# Altium footprint library MLACHE_J.PCBLIB: 73 footprints (part 3 of 5)
Each footprint in its own frame and in the unit in brackets; x right, y up, seen from the top. Pads: shape width x height; smd on the part's side, far side on the other; paste and mask are expansions set on the pad; w line width, h text height; cw(c..) or ccw(c..) is an arc to the next point about the centre after c.
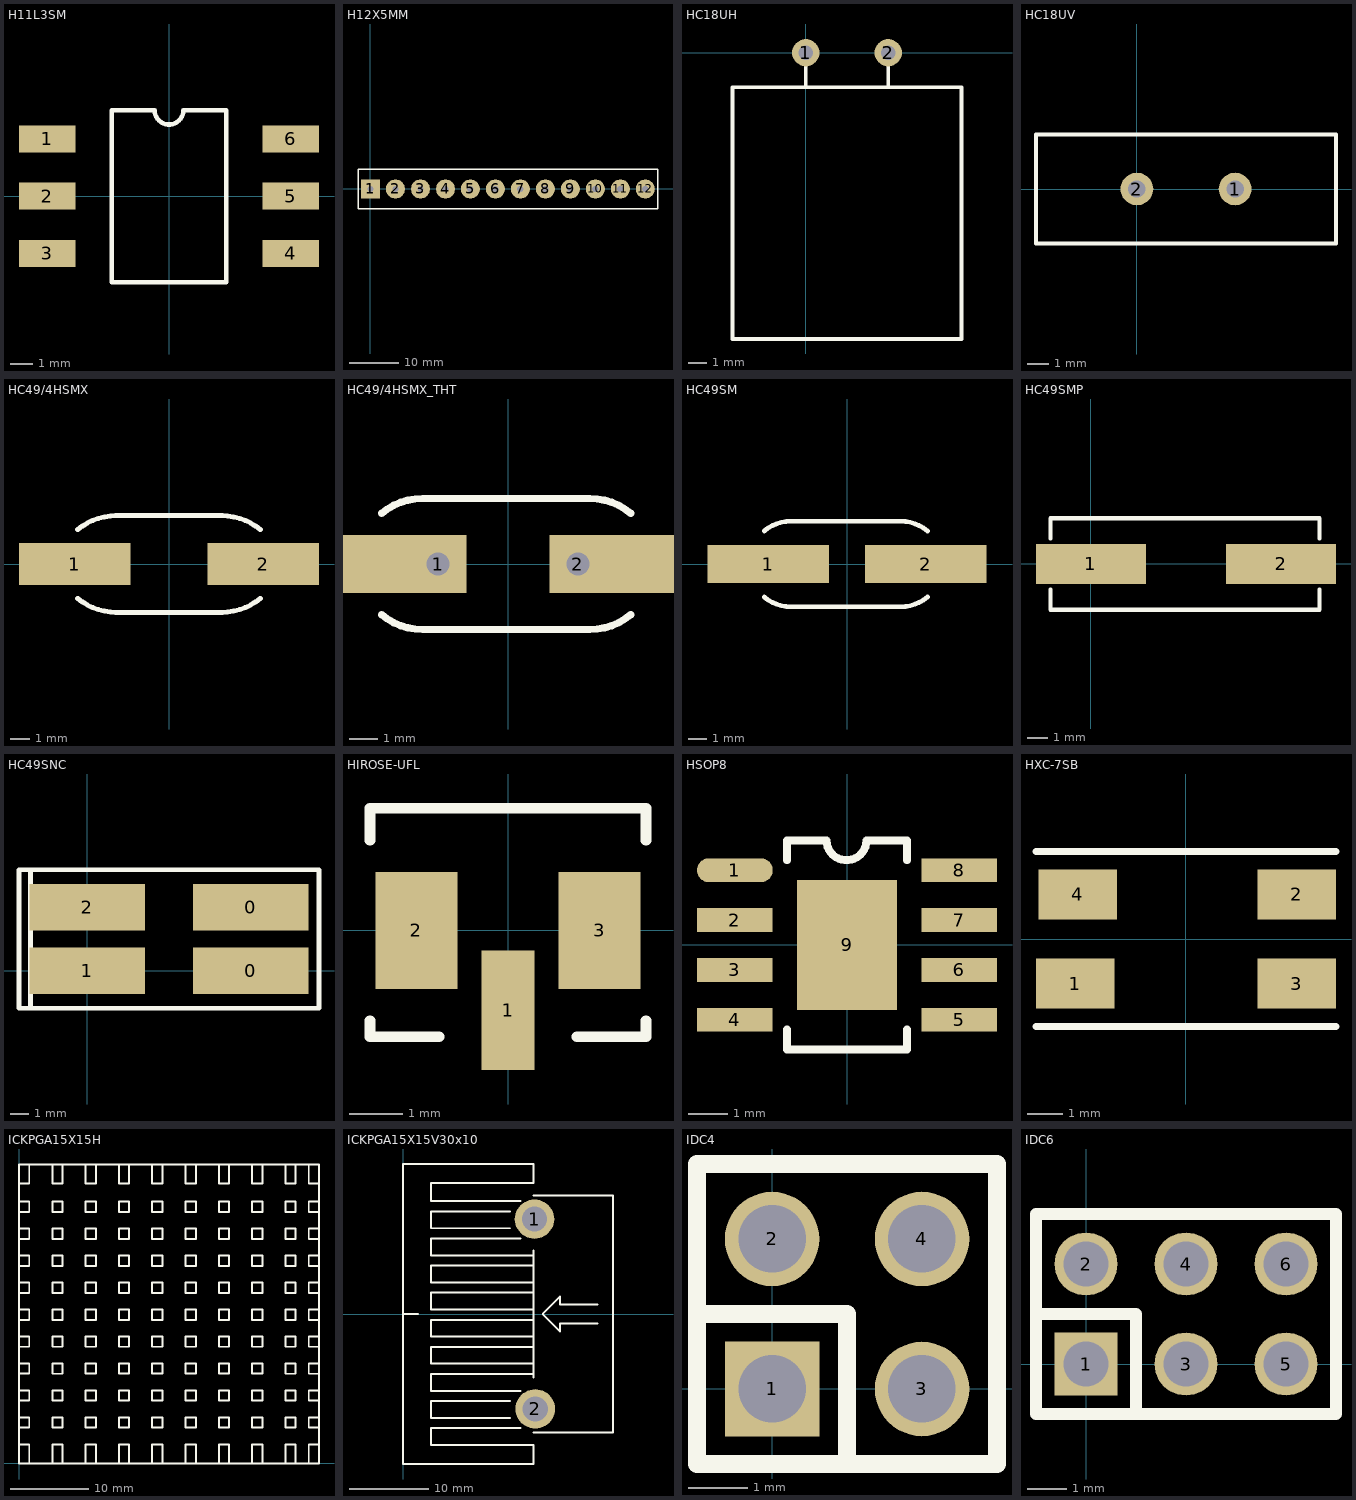
[diagram p2: the footprints below, top view; thin cyan lines are the x and y axes]

## H11L3SM [mm]
pads (6):
  rect 2.5x1.2 smd: 1(-5.4,2.54) 2(-5.4,0) 3(-5.4,-2.54) 4(5.4,-2.54) 5(5.4,0) 6(5.4,2.54)
TopOverlay:
  lines w0.203: -2.54,-3.81 2.54,-3.81 2.54,3.81 0.635,3.81 cw(c0,3.81) -0.635,3.81 -2.54,3.81 -2.54,-3.81

## H12X5MM [mil]
pads (12):
  rect 150x150 hole 50: 1(0,0)
  round 150 hole 50: 2(197,0) 3(394,0) 4(591,0) 5(787,0) 6(984,0) 7(1181,0) 8(1378,0) 9(1575,0) 10(1772,0) 11(1969,0) 12(2165,0)
TopOverlay:
  lines w10: -98,-157 2265,-157 2265,157 -98,157 -98,-157

## HC18UH [mil]
pads (2):
  round 60 hole 32: 1(0,0) 2(180,0)
TopOverlay:
  lines w8: 0,-75 0,-30 ; 180,-75 180,-30 ; -160,-625 340,-625 340,-75 -160,-75 -160,-625

## HC18UV [mil]
pads (2):
  round 60 hole 32: 1(180,0) 2(0,0)
TopOverlay:
  lines w8: -185,-100 -185,100 365,100 365,-100 -185,-100

## HC49/4HSMX [mm]
pads (2):
  rect 5.6x2.1 smd: 1(-4.75,0) 2(4.75,0)
TopOverlay:
  lines w0.254: -4.602,-1.726 ccw(c-2.65,0.6) -2.65,-2.436 ; -4.602,1.726 cw(c-2.65,-0.6) -2.65,2.436 ; -2.699,-2.45 0,-2.45 2.699,-2.45 ; -2.699,2.45 0,2.45 2.699,2.45 ; 2.65,-2.436 ccw(c2.65,0.6) 4.602,-1.726 ; 2.65,2.436 cw(c2.65,-0.6) 4.602,1.726
3D body: height 1, standoff 0.2, extent -5.5,-2.4 5.5,2.4
3D body: height 0.5, standoff 0, extent 2.45,-0.5 6.35,0.5
3D body: height 0.5, standoff 0, extent -6.35,-0.5 -2.45,0.5
3D body: height 4.2, standoff 1, extent -5.018,-2.295 4.8,2.295

## HC49/4HSMX_THT [mil]
pads (2):
  rect 220x80 hole 32 copper offset -71.1,0: 1(-96.06,0)
  rect 220x80 hole 32 copper offset 71.1,0: 2(96.06,0)
TopOverlay:
  lines w10: -173.74,-69.53 ccw(c-117.5,-2.5) -117.5,-90 112.5,-90 ccw(c112.5,-2.5) 168.74,-69.53 ; -173.74,69.53 cw(c-117.5,2.5) -117.5,90 112.5,90 cw(c112.5,2.5) 168.74,69.53

## HC49SM [mm]
pads (2):
  rect 6.5x2 smd: 1(-4.2,0) 2(4.2,0)
TopOverlay:
  lines w0.254: -4.413,-1.766 ccw(c-2.984,-0.064) -2.985,-2.286 2.857,-2.286 ccw(c2.857,-0.064) 4.286,-1.766 ; -4.413,1.766 cw(c-2.984,0.064) -2.984,2.286 2.857,2.286 cw(c2.857,0.064) 4.286,1.766
TopPaste:
  region: 7.5,-0.999 7.5,1.001 2,1.001 2,-0.999
  region: -7.5,1.001 -7.5,-0.999 -2,-0.999 -2,1.001
TopSolder:
  region: 7.999,1.117 -8.001,1.117 -8.001,-1.118 7.999,-1.118

## HC49SMP [mm]
pads (2):
  rect 5.5x2 smd: 1(0,0) 2(9.5,0)
TopOverlay:
  lines w0.203: -2.032,-1.27 -2.032,-2.286 11.43,-2.286 11.43,-1.27 ; -2.032,1.27 -2.032,2.286 11.43,2.286 11.43,1.27
3D body: height 4.2, standoff 1, extent -0.268,-2.295 9.55,2.295
3D body: height 0.5, standoff 0, extent -1.6,-0.5 2.3,0.5
3D body: height 0.5, standoff 0, extent 7.2,-0.5 11.1,0.5
3D body: height 1, standoff 0.2, extent -0.75,-2.4 10.25,2.4

## HC49SNC [mm]
pads (4):
  rect 6.35x2.54 smd: 0(9,0) 0(9,3.5) 1(0,0) 2(0,3.5)
TopOverlay:
  lines w0.254: -3.12,-2.06 -3.12,5.56 ; -3.755,-2.06 12.755,-2.06 12.755,5.56 -3.755,5.56 -3.755,-2.06

## HIROSE-UFL [mm]
pads (3):
  rect 1x2.25 smd: 1(0,-1.5)
  rect 1.55x2.2 smd: 2(-1.725,0) 3(1.725,0)
TopOverlay:
  lines w0.2: -2.6,-1.7 -2.6,-2 -1.3,-2 ; -2.6,1.7 -2.6,2.3 2.6,2.3 2.6,1.7 ; 1.3,-2 2.6,-2 2.6,-1.7
3D body: height 1.15, standoff 0.3, extent -1.05,-0.8 1.042,1.296
3D body: height 0.15, standoff 0, extent 1.3,-0.8 1.5,1.3
3D body: height 0.15, standoff 0, extent -0.25,-1.25 0.25,-1.05
3D body: height 0.15, standoff 0, extent -0.25,1.55 0.25,1.75
3D body: height 0.15, standoff 0, extent -1.5,-0.8 -1.3,1.3
3D body: height 0.3, standoff 0, extent -1.3,-1.05 1.3,1.55

## HSOP8 [mil]
pads (9):
  oval 76x24 smd: 1(-112.5,75)
  rect 76x24 smd: 2(-112.5,25) 3(-112.5,-25) 4(-112.5,-75) 5(112.5,-75) 6(112.5,-25) 7(112.5,25) 8(112.5,75)
  rect 100x130 smd: 9(0,0)
TopOverlay:
  lines w8: -60,-85 -60,-105 60,-105 60,-85 ; -60,85 -60,105 -20.5,105 ccw(c-0.5,105) 19.5,105 60,105 60,85
3D body: height 31.5, standoff 0, extent -122.05,66.93 -78.74,82.68
3D body: height 31.5, standoff 0, extent -122.05,16.93 -78.74,32.68
3D body: height 31.5, standoff 0, extent -122.05,-33.07 -78.74,-17.32
3D body: height 31.5, standoff 0, extent -122.05,-83.07 -78.74,-67.32
3D body: height 31.5, standoff 0, extent 78.74,-83.07 122.05,-67.32
3D body: height 31.5, standoff 0, extent 78.74,-33.07 122.05,-17.32
3D body: height 31.5, standoff 0, extent 78.74,16.93 122.05,32.68
3D body: height 31.5, standoff 0, extent 78.74,66.93 122.05,82.68
3D body: height 66.93, standoff 0, extent -78.74,-98.43 78.74,98.43

## HXC-7SB [mm]
pads (4):
  rect 2.2x1.4 smd: 1(-3.1,-1.25) 2(3.1,1.25) 3(3.1,-1.25) 4(-3.034,1.25)
TopOverlay:
  lines w0.203: -4.2,-2.45 4.2,-2.45 ; -4.2,2.45 4.2,2.45
3D body: height 1.5, standoff 0, extent -3.5,-1.5 3.5,1.5
3D body: height 1, standoff 0, extent -3.6,-1.5 -3.5,-0.8
3D body: height 1, standoff 0, extent -3.6,0.8 -3.5,1.5
3D body: height 1, standoff 0, extent 3.5,0.8 3.6,1.5
3D body: height 1, standoff 0, extent 3.5,-1.5 3.6,-0.8

## ICKPGA15X15H [mil]
TopOverlay:
  drawing of 402 lines, arcs and shapes, not listed
3D body: height 649.61, standoff 0, extent 1448.82,1398.43 1500,1492.91
3D body: height 649.61, standoff 0, extent 1332.28,1398.43 1383.46,1492.91
3D body: height 649.61, standoff 0, extent 1165.75,1398.43 1216.93,1492.91
3D body: height 649.61, standoff 0, extent 999.21,1398.43 1050.39,1492.91
3D body: height 649.61, standoff 0, extent 832.68,1398.43 883.86,1492.91
3D body: height 649.61, standoff 0, extent 666.14,1398.43 717.32,1492.91
3D body: height 649.61, standoff 0, extent 499.61,1398.43 550.79,1492.91
3D body: height 649.61, standoff 0, extent 333.07,1398.43 384.25,1492.91
3D body: height 649.61, standoff 0, extent 166.54,1398.43 217.72,1492.91
3D body: height 649.61, standoff 0, extent 0,1398.43 51.18,1492.91
3D body: height 649.61, standoff 0, extent 166.54,1256.89 217.72,1308.07
3D body: height 649.61, standoff 0, extent 0,1256.89 51.18,1308.07
3D body: height 649.61, standoff 0, extent 333.07,1256.69 384.25,1307.87
3D body: height 649.61, standoff 0, extent 499.61,1256.69 550.79,1307.87
3D body: height 649.61, standoff 0, extent 666.14,1256.69 717.32,1307.87
3D body: height 649.61, standoff 0, extent 832.68,1256.69 883.86,1307.87
3D body: height 649.61, standoff 0, extent 999.21,1256.69 1050.39,1307.87
3D body: height 649.61, standoff 0, extent 1165.75,1256.69 1216.93,1307.87
3D body: height 649.61, standoff 0, extent 1332.28,1256.69 1383.46,1307.87
3D body: height 649.61, standoff 0, extent 1448.82,1256.69 1500,1307.87
3D body: height 649.61, standoff 0, extent 1448.82,1122.05 1500,1173.23
3D body: height 649.61, standoff 0, extent 1332.28,1122.05 1383.46,1173.23
3D body: height 649.61, standoff 0, extent 1165.75,1122.05 1216.93,1173.23
3D body: height 649.61, standoff 0, extent 999.21,1122.05 1050.39,1173.23
3D body: height 649.61, standoff 0, extent 832.68,1122.05 883.86,1173.23
3D body: height 649.61, standoff 0, extent 666.14,1122.05 717.32,1173.23
3D body: height 649.61, standoff 0, extent 499.61,1122.05 550.79,1173.23
3D body: height 649.61, standoff 0, extent 333.07,1122.05 384.25,1173.23
3D body: height 649.61, standoff 0, extent 166.54,1122.05 217.72,1173.23
3D body: height 649.61, standoff 0, extent 0,1122.05 51.18,1173.23
3D body: height 649.61, standoff 0, extent 0,987.2 51.18,1038.39
3D body: height 649.61, standoff 0, extent 166.54,987.2 217.72,1038.39
3D body: height 649.61, standoff 0, extent 333.07,987.2 384.25,1038.39
3D body: height 649.61, standoff 0, extent 499.61,987.2 550.79,1038.39
3D body: height 649.61, standoff 0, extent 666.14,987.2 717.32,1038.39
3D body: height 649.61, standoff 0, extent 832.68,987.2 883.86,1038.39
3D body: height 649.61, standoff 0, extent 999.21,987.2 1050.39,1038.39
3D body: height 649.61, standoff 0, extent 1165.75,987.2 1216.93,1038.39
3D body: height 649.61, standoff 0, extent 1332.28,987.2 1383.46,1038.39
3D body: height 649.61, standoff 0, extent 1448.82,987.2 1500,1038.39
3D body: height 649.61, standoff 0, extent 0,852.36 51.18,903.54
3D body: height 649.61, standoff 0, extent 166.54,852.36 217.72,903.54
3D body: height 649.61, standoff 0, extent 333.07,852.36 384.25,903.54
3D body: height 649.61, standoff 0, extent 499.61,852.36 550.79,903.54
3D body: height 649.61, standoff 0, extent 666.14,852.36 717.32,903.54
3D body: height 649.61, standoff 0, extent 832.68,852.36 883.86,903.54
3D body: height 649.61, standoff 0, extent 999.21,852.36 1050.39,903.54
3D body: height 649.61, standoff 0, extent 1165.75,852.36 1216.93,903.54
3D body: height 649.61, standoff 0, extent 1332.28,852.36 1383.46,903.54
3D body: height 649.61, standoff 0, extent 1448.82,852.36 1500,903.54
3D body: height 649.61, standoff 0, extent 0,717.52 51.18,768.7
3D body: height 649.61, standoff 0, extent 166.54,717.52 217.72,768.7
3D body: height 649.61, standoff 0, extent 333.07,717.52 384.25,768.7
3D body: height 649.61, standoff 0, extent 499.61,717.52 550.79,768.7
3D body: height 649.61, standoff 0, extent 666.14,717.52 717.32,768.7
3D body: height 649.61, standoff 0, extent 832.68,717.52 883.86,768.7
3D body: height 649.61, standoff 0, extent 999.21,717.52 1050.39,768.7
3D body: height 649.61, standoff 0, extent 1165.75,717.52 1216.93,768.7
3D body: height 649.61, standoff 0, extent 1332.28,717.52 1383.46,768.7
3D body: height 649.61, standoff 0, extent 1448.82,717.52 1500,768.7
3D body: height 649.61, standoff 0, extent 0,582.68 51.18,633.86
3D body: height 649.61, standoff 0, extent 166.54,582.68 217.72,633.86
3D body: height 649.61, standoff 0, extent 333.07,582.68 384.25,633.86
3D body: height 649.61, standoff 0, extent 499.61,582.68 550.79,633.86
3D body: height 649.61, standoff 0, extent 666.14,582.68 717.32,633.86
3D body: height 649.61, standoff 0, extent 832.68,582.68 883.86,633.86
3D body: height 649.61, standoff 0, extent 999.21,582.68 1050.39,633.86
3D body: height 649.61, standoff 0, extent 1165.75,582.68 1216.93,633.86
3D body: height 649.61, standoff 0, extent 1332.28,582.68 1383.46,633.86
3D body: height 649.61, standoff 0, extent 1448.82,582.68 1500,633.86
3D body: height 649.61, standoff 0, extent 0,447.83 51.18,499.02
3D body: height 649.61, standoff 0, extent 166.54,447.83 217.72,499.02
3D body: height 649.61, standoff 0, extent 333.07,447.83 384.25,499.02
3D body: height 649.61, standoff 0, extent 499.61,447.83 550.79,499.02
3D body: height 649.61, standoff 0, extent 666.14,447.83 717.32,499.02
3D body: height 649.61, standoff 0, extent 832.68,447.83 883.86,499.02
3D body: height 649.61, standoff 0, extent 999.21,447.83 1050.39,499.02
3D body: height 649.61, standoff 0, extent 1165.75,447.83 1216.93,499.02
3D body: height 649.61, standoff 0, extent 1332.28,447.83 1383.46,499.02
3D body: height 649.61, standoff 0, extent 1448.82,447.83 1500,499.02
3D body: height 649.61, standoff 0, extent 0,312.99 51.18,364.17
3D body: height 649.61, standoff 0, extent 166.54,312.99 217.72,364.17
3D body: height 649.61, standoff 0, extent 333.07,312.99 384.25,364.17
3D body: height 649.61, standoff 0, extent 499.61,312.99 550.79,364.17
3D body: height 649.61, standoff 0, extent 666.14,312.99 717.32,364.17
3D body: height 649.61, standoff 0, extent 832.68,312.99 883.86,364.17
3D body: height 649.61, standoff 0, extent 999.21,312.99 1050.39,364.17
3D body: height 649.61, standoff 0, extent 1165.75,312.99 1216.93,364.17
3D body: height 649.61, standoff 0, extent 1332.28,312.99 1383.46,364.17
3D body: height 649.61, standoff 0, extent 1448.82,312.99 1500,364.17
3D body: height 649.61, standoff 0, extent 0,178.15 51.18,229.33
3D body: height 649.61, standoff 0, extent 166.54,178.15 217.72,229.33
3D body: height 649.61, standoff 0, extent 333.07,178.15 384.25,229.33
3D body: height 649.61, standoff 0, extent 499.61,178.15 550.79,229.33
3D body: height 649.61, standoff 0, extent 666.14,178.15 717.32,229.33
3D body: height 649.61, standoff 0, extent 832.68,178.15 883.86,229.33
3D body: height 649.61, standoff 0, extent 999.21,178.15 1050.39,229.33
3D body: height 649.61, standoff 0, extent 1165.75,178.15 1216.93,229.33
3D body: height 649.61, standoff 0, extent 1332.28,178.15 1383.46,229.33
3D body: height 649.61, standoff 0, extent 1448.82,178.15 1500,229.33
3D body: height 649.61, standoff 0, extent 0,0 51.18,94.49
3D body: height 649.61, standoff 0, extent 166.54,0 217.72,94.49
3D body: height 649.61, standoff 0, extent 333.07,0 384.25,94.49
3D body: height 649.61, standoff 0, extent 499.61,0 550.79,94.49
3D body: height 649.61, standoff 0, extent 666.14,0 717.32,94.49
3D body: height 649.61, standoff 0, extent 832.68,0 883.86,94.49
3D body: height 649.61, standoff 0, extent 999.21,0 1050.39,94.49
3D body: height 649.61, standoff 0, extent 1165.75,0 1216.93,94.49
3D body: height 649.61, standoff 0, extent 1332.28,0 1383.46,94.49
3D body: height 649.61, standoff 0, extent 1448.82,0 1500,94.49
3D body: height 137.8, standoff 0, extent 0,0 1500,1492.91

## ICKPGA15X15V30x10 [mm]
pads (2):
  round 5 hole 3.2: 1(16.6,12) 2(16.7,-12)
TopOverlay:
  lines w0.25: 0,0 1.87,0 ; 13.5,-13.135 3.5,-13.135 3.5,-11.01 13.5,-11.01 ; 13.5,10.84 3.5,10.84 3.5,12.965 13.5,12.965 ; 14.8,-14.435 3.5,-14.435 3.5,-16.56 16.5,-16.56 16.5,-18.96 0,-18.96 0,18.96 16.5,18.96 16.5,16.56 3.5,16.56 3.5,14.265 14.8,14.265 ; 14.8,-9.71 3.5,-9.71 3.5,-7.585 16.5,-7.585 ; 14.8,9.54 3.5,9.54 3.5,7.415 16.5,7.415 ; 16.5,-15 26.5,-15 26.5,15 16.5,15 ; 16.5,-8 16.5,8 ; 16.5,-6.285 3.5,-6.285 3.5,-4.16 16.5,-4.16 ; 16.5,-2.86 3.5,-2.86 3.5,-0.735 16.5,-0.735 ; 16.5,0.565 3.5,0.565 3.5,2.69 16.5,2.69 ; 16.5,3.99 3.5,3.99 3.5,6.115 16.5,6.115 ; 17.65,-0.05 19.8,-2.2 19.8,-1.2 24.55,-1.2 ; 17.65,0.05 19.8,2.2 19.8,1.2 24.55,1.2
3D body: height 38.1, standoff 0, extent 0,-18.96 16.5,18.96
3D body: height 30, standoff 0, extent 16.5,-15 26.5,15

## IDC4 [mil]
pads (4):
  rect 63x63 hole 45: 1(0,0)
  round 63 hole 45: 2(0,100) 3(100,0) 4(100,100)
TopOverlay:
  lines w12: -50,50 50,50 50,-50 ; -50,-50 150,-50 150,150 -50,150 -50,-50

## IDC6 [mil]
pads (6):
  rect 63x63 hole 45: 1(0,0)
  round 63 hole 45: 2(0,100) 3(100,0) 4(100,100) 5(200,0) 6(200,100)
TopOverlay:
  lines w12: -50,50 50,50 50,-50 ; -50,-50 -50,150 250,150 250,-50 -50,-50